# EAGLE library part SN74LVC245A (library SN74LVC245A)
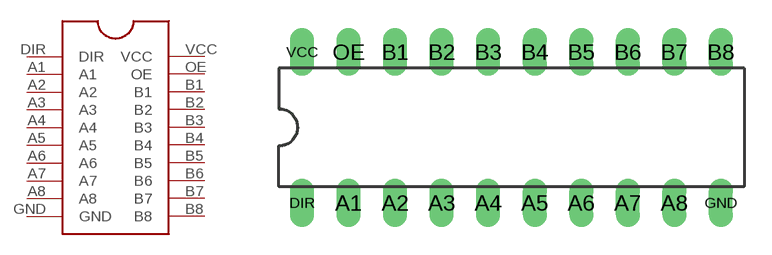
[diagram p0: symbol with the pads of SN74LVC245A; footprint SN74LVC245A]

Designator prefix -

## SN74LVC245A  [SN74LVC245A]
A1  A1
A2  A2
A3  A3
A4  A4
A5  A5
A6  A6
A7  A7
A8  A8
B1  B1  out
B2  B2  out
B3  B3  out
B4  B4  out
B5  B5  out
B6  B6  out
B7  B7  out
B8  B8  out
DIR  DIR
GND  GND  pwr
OE  OE
VCC  VCC  pwr

## Footprint SN74LVC245A (pad centres in mm)
drill 0.813 long: A1 -7.62,-4.128; A2 -5.08,-4.128; A3 -2.54,-4.128; A4 0,-4.128; A5 2.54,-4.128; A6 5.08,-4.128; A7 7.62,-4.128; A8 10.16,-4.128; B1 -5.08,4.128; B2 -2.54,4.128; B3 0,4.128; B4 2.54,4.128; B5 5.08,4.128; B6 7.62,4.128; B7 10.16,4.128; B8 12.7,4.128; DIR -10.16,-4.128; GND 12.7,-4.128; OE -7.62,4.128; VCC -10.16,4.128